# Altium schematic symbol library Schlib1.SchLib: 1 symbol
Pins are listed as number, name and electrical type; pins without a type are passive.

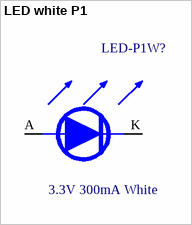
[diagram p0: symbol LED white P1]

## LED white P1
designator LED-P1W?, comment 3.3V 300mA White
High power 1W light emitting diode White
footprint PCBComponent_1
pins: A, K